# EAGLE library part BLE113 (library James_custom)
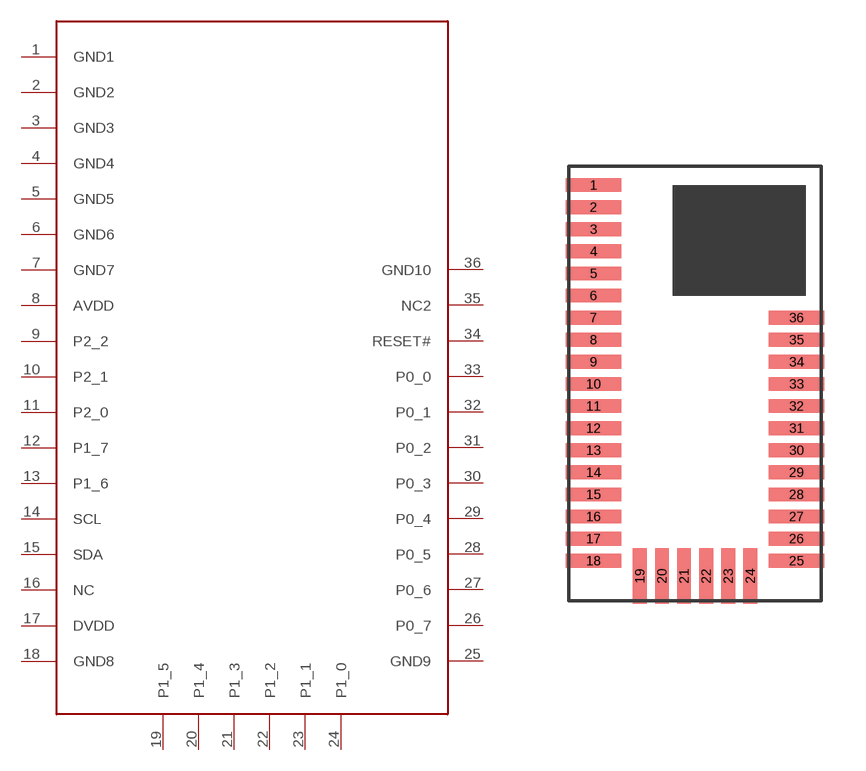
[diagram p27: symbol with the pads of BLUEGIGA; footprint BLUEGIGA]

Designator prefix -

## BLE113  [BLUEGIGA]
1  GND1
2  GND2
3  GND3
4  GND4
5  GND5
6  GND6
7  GND7
8  AVDD
9  P2_2
10  P2_1
11  P2_0
12  P1_7
13  P1_6
14  SCL
15  SDA
16  NC
17  DVDD
18  GND8
19  P1_5
20  P1_4
21  P1_3
22  P1_2
23  P1_1
24  P1_0
25  GND9
26  P0_7
27  P0_6
28  P0_5
29  P0_4
30  P0_3
31  P0_2
32  P0_1
33  P0_0
34  RESET#
35  NC2
36  GND10

## Footprint BLUEGIGA (pad centres in mm)
smd 2 x 0.5: 1 -3.675,9.6; 2 -3.675,8.8; 3 -3.675,8; 4 -3.675,7.2; 5 -3.675,6.4; 6 -3.675,5.6; 7 -3.675,4.8; 8 -3.675,4; 9 -3.675,3.2; 10 -3.675,2.4; 11 -3.675,1.6; 12 -3.675,0.8; 13 -3.675,0; 14 -3.675,-0.8; 15 -3.675,-1.6; 16 -3.675,-2.4; 17 -3.675,-3.2; 18 -3.675,-4; 25 3.675,-4; 26 3.675,-3.2; 27 3.675,-2.4; 28 3.675,-1.6; 29 3.675,-0.8; 30 3.675,0; 31 3.675,0.8; 32 3.675,1.6; 33 3.675,2.4; 34 3.675,3.2; 35 3.675,4; 36 3.675,4.8
smd 0.5 x 2: 19 -2,-4.55; 20 -1.2,-4.55; 21 -0.4,-4.55; 22 0.4,-4.55; 23 1.2,-4.55; 24 2,-4.55